# Altium schematic symbol library SamacSys.SchLib: 1 symbol
Pins are listed as number, name and electrical type; pins without a type are passive.

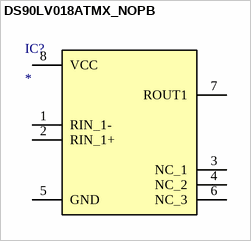
[diagram p0: symbol DS90LV018ATMX_NOPB]

## DS90LV018ATMX_NOPB
designator IC?
Integrated Circuit; Manufacturer_Name: Texas Instruments; Manufacturer_Part_Number: DS90LV018ATMX/NOPB; Description: 3V LVDS Single CMOS Differential Line Receiver; Datasheet Link: http://www.ti.com/lit/gpn/ds90lv018a; Height: 1.75mm; Mouser Part Number: 926-DS90LV018ATMXNPB; Mouser Price/Stock: https://www.mouser.co.uk/ProductDetail/Texas-Instruments/DS90LV018ATMX-NOPB?qs=X1J7HmVL2ZGhGuL83KQT5g%3D%3D; Arrow Part Number: DS90LV018ATMX/NOPB; Arrow Price/Stock: https://www.arrow.com/en/products/ds90lv018atmxnopb/texas-instruments
footprint SOIC127P600X175-8N
pins: 1 RIN_1-, 2 RIN_1+, 3 NC_1, 4 NC_2, 5 GND, 6 NC_3, 7 ROUT1, 8 VCC